# Altium schematic symbol library USB-B_4PIN.SchLib: 1 symbol
Pins are listed as number, name and electrical type; pins without a type are passive.

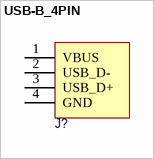
[diagram p0: symbol USB-B_4PIN]

## USB-B_4PIN
designator J?  (value not drawn)
pins: 1 VBUS, 2 USB_D-, 3 USB_D+, 4 GND